# Altium footprint library DPAK.PcbLib: 2 footprints
Each footprint in its own frame and in the unit in brackets; x right, y up, seen from the top. Pads: shape width x height; smd on the part's side, far side on the other; paste and mask are expansions set on the pad; w line width, h text height; cw(c..) or ccw(c..) is an arc to the next point about the centre after c.
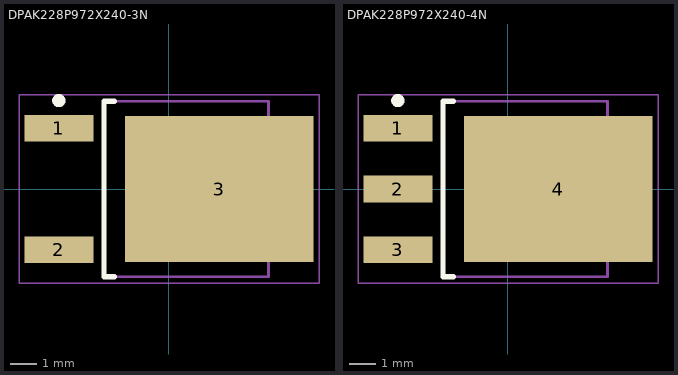
[diagram p0: the footprints below, top view; thin cyan lines are the x and y axes]

## DPAK228P972X240-3N [mm] "D-PAK, 3-Pads, Body 6,20x6,66mm (max), IPC Medium Density"
height 2.4
pads (3):
  rect 2.6x1 smd: 1(-4.15,2.28) 2(-4.15,-2.28)
  rect 7.1x5.5 smd: 3(1.9,0)
Top Overlay:
  circle w0.25: c-4.15,3.33 r0.125
  lines w0.2: -2.05,-3.3 -2.45,-3.3 -2.45,3.3 -2.05,3.3
Mechanical 13:
  lines w0.1: -2.45,-3.3 -2.45,3.3 3.75,3.3 3.75,-3.3 -2.45,-3.3
Mechanical 15:
  lines w0.05: -5.65,-3.55 -5.65,3.55 5.65,3.55 5.65,-3.55 -5.65,-3.55
  lines w0.1: -0.5,0 0.5,0 ; 0,-0.5 0,0.5
3D body: height 2.4, standoff 0.9, extent -2.45,-3.3 3.75,3.3

## DPAK228P972X240-4N [mm] "D-PAK, 4-Pads, Body 6,20x6,66mm (max), IPC Medium Density"
height 2.4
pads (4):
  rect 2.6x1 smd: 1(-4.15,2.28) 2(-4.15,0) 3(-4.15,-2.28)
  rect 7.1x5.5 smd: 4(1.9,0)
Top Overlay:
  circle w0.25: c-4.15,3.33 r0.125
  lines w0.2: -2.05,-3.3 -2.45,-3.3 -2.45,3.3 -2.05,3.3
Mechanical 13:
  lines w0.1: -2.45,-3.3 3.75,-3.3 3.75,3.3 -2.45,3.3 -2.45,-3.3
Mechanical 15:
  lines w0.05: -5.65,-3.55 5.65,-3.55 5.65,3.55 -5.65,3.55 -5.65,-3.55
  lines w0.1: 0,-0.5 0,0.5
3D body: height 2.4, standoff 0.9, extent -2.45,-3.3 3.75,3.3